# Altium footprint library Micro USB - MicroXNJ.PcbLib: 1 footprints
Each footprint in its own frame and in the unit in brackets; x right, y up, seen from the top. Pads: shape width x height; smd on the part's side, far side on the other; paste and mask are expansions set on the pad; w line width, h text height; cw(c..) or ccw(c..) is an arc to the next point about the centre after c.
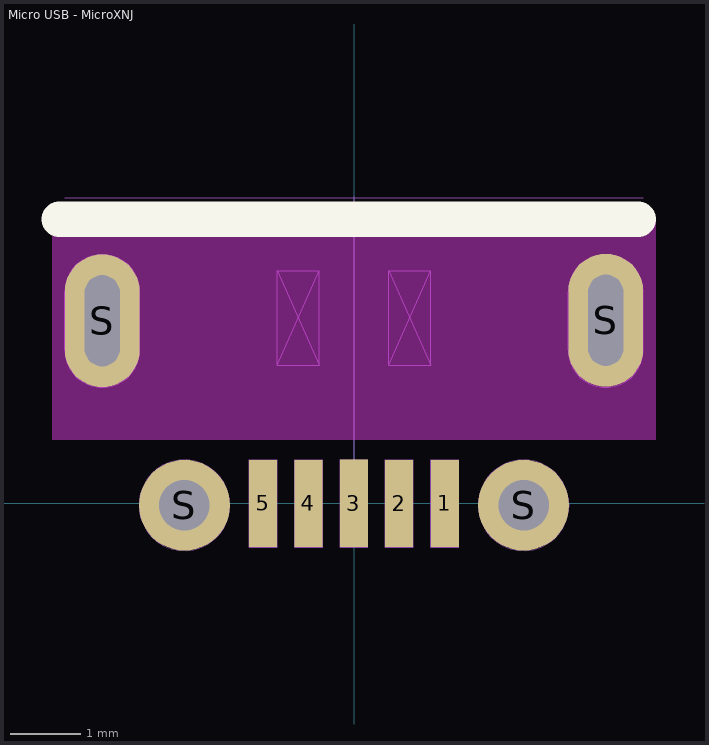
[diagram p0: the footprint, top view; thin cyan lines are the x and y axes]

## Micro USB - MicroXNJ [mm]
pads (9):
  rect 0.4x1.25 smd: 1(1.3,0) 2(0.647,0) 3(-0.003,0.003) 4(-0.653,0) 5(-1.3,0)
  oval 1.07x1.9 hole 1.3 slot 0.5 at 0 deg: S(-3.6,2.613) S(3.6,2.62)
  round 1.3 hole 0.72: S(-2.425,-0.025) S(2.425,-0.025)
Top Overlay:
  lines w0.508: -4.214,4.064 4.064,4.064
Keep-Out Layer:
  rectangle: -4.318,0.91 4.318,4.064
Mechanical 1:
  circle w0.013: c2.425,-0.025 r0.65
  circle w0.013: c-2.425,-0.025 r0.65
  circle w0.006: c-1.3,0 r0.003
  circle w0.006: c0,0 r0.003
  circle w0.006: c0.65,0 r0.003
  circle w0.006: c1.3,0 r0.003
  circle w0.006: c-0.65,0 r0.003
  circle w0.006: c-0.8,2.65 r0.003
  circle w0.006: c0.8,2.65 r0.003
  circle w0.006: c-3.6,2.61 r0.003
  circle w0.006: c-3.6,3.56 r0.003
  circle w0.006: c-3.6,1.66 r0.003
  circle w0.006: c0,4.375 r0.003
  circle w0.006: c3.6,2.61 r0.003
  lines w0.013: -4.139,4.375 4.139,4.375 ; -3.6,2.195 -3.6,3.025 ; 0,0 0,4.375 ; 3.6,2.195 3.6,3.025 ; -1.1,1.975 -1.1,3.325 ; -1.1,1.975 -0.5,1.975 ; -1.1,1.975 -0.5,3.325 ; -1.1,3.325 -0.5,3.325 ; -1.1,3.325 -0.5,1.975 ; -0.5,1.975 -0.5,3.325 ; 0.5,1.975 1.1,3.325 ; 0.5,1.975 0.5,3.325 ; 0.5,1.975 1.1,1.975 ; 0.5,3.325 1.1,1.975 ; 0.5,3.325 1.1,3.325 ; 1.1,1.975 1.1,3.325 ; -4.135,2.195 ccw(c-3.6,2.195) -3.065,2.195 -3.065,3.025 ccw(c-3.6,3.025) -4.135,3.025 -4.135,2.195 ; -1.5,-0.625 -1.1,-0.625 -1.1,0.625 -1.5,0.625 -1.5,-0.625 ; -0.85,-0.625 -0.45,-0.625 -0.45,0.625 -0.85,0.625 -0.85,-0.625 ; -0.2,-0.625 -0.2,0.625 0.2,0.625 0.2,-0.625 -0.2,-0.625 ; 0.45,-0.625 0.45,0.625 0.85,0.625 0.85,-0.625 0.45,-0.625 ; 1.1,-0.625 1.1,0.625 1.5,0.625 1.5,-0.625 1.1,-0.625 ; 3.065,2.195 ccw(c3.6,2.195) 4.135,2.195 4.135,3.025 ccw(c3.6,3.025) 3.065,3.025 3.065,2.195
3D body: height 2.65, standoff 0, extent -3.622,4.064 -3.622,4.064
3D body: height 2.65, standoff 0, extent -3.622,4.064 -3.622,4.064
3D body: height 2.65, standoff 0, extent -3.622,4.064 -3.622,4.064
3D body "ab2_usb_micro_smd.x_t": height 2.76, standoff -0.81, extent -4,-0.5 4,5.1